# EAGLE library part MSP430F2132IPW (library Microcontroller)
IC MCU 16BIT 8KB FLASH 28TSSOP Manufacturer's datasheet <http://www.ti.com/lit/ds/symlink/msp430f2132.pdf>
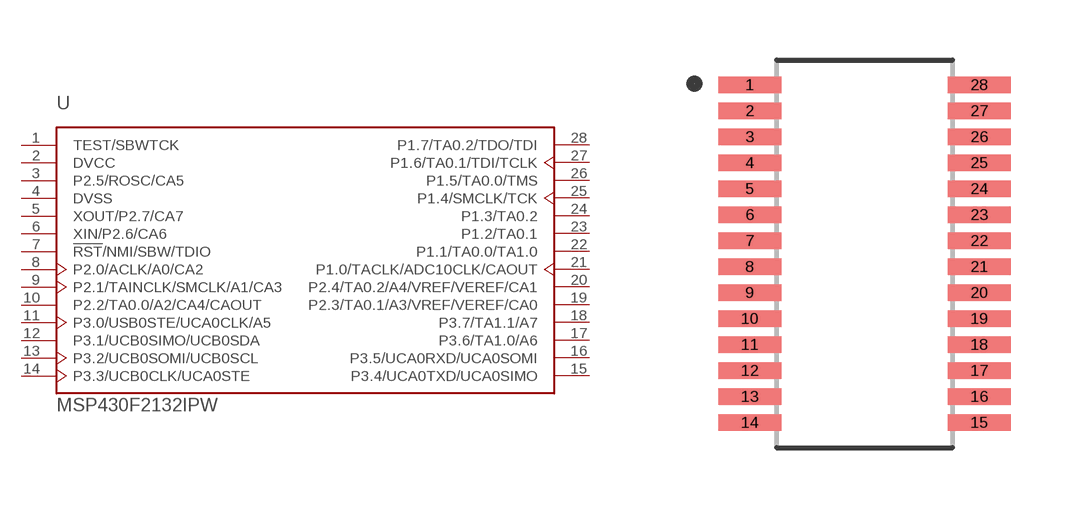
[diagram p13: symbol with the pads of TSSOP-28; footprint TSSOP-28]

Designator prefix U

## MSP430F2132IPW (CREATED_BY: PCBLayout.com; DIGIKEY_PART_NUMBER: 296-33426-5-ND; MANUFACTURER: Texas Instruments; MPN: MSP430F2132IPW; PACKAGE: TSSOP-28)  [TSSOP-28]
1  TEST/SBWTCK  in
2  DVCC
3  P2.5/ROSC/CA5
4  DVSS
5  XOUT/P2.7/CA7
6  XIN/P2.6/CA6
7  !RST!/NMI/SBW/TDIO  in
8  P2.0/ACLK/A0/CA2
9  P2.1/TAINCLK/SMCLK/A1/CA3
10  P2.2/TA0.0/A2/CA4/CAOUT
11  P3.0/USB0STE/UCA0CLK/A5
12  P3.1/UCB0SIMO/UCB0SDA
13  P3.2/UCB0SOMI/UCB0SCL
14  P3.3/UCB0CLK/UCA0STE
15  P3.4/UCA0TXD/UCA0SIMO
16  P3.5/UCA0RXD/UCA0SOMI
17  P3.6/TA1.0/A6
18  P3.7/TA1.1/A7
19  P2.3/TA0.1/A3/VREF/VEREF/CA0
20  P2.4/TA0.2/A4/VREF/VEREF/CA1
21  P1.0/TACLK/ADC10CLK/CAOUT
22  P1.1/TA0.0/TA1.0
23  P1.2/TA0.1
24  P1.3/TA0.2
25  P1.4/SMCLK/TCK
26  P1.5/TA0.0/TMS
27  P1.6/TA0.1/TDI/TCLK
28  P1.7/TA0.2/TDO/TDI

## Footprint TSSOP-28 (pad centres in mm)
smd 1.57 x 0.41: 1 -2.87,4.225; 2 -2.87,3.575; 3 -2.87,2.925; 4 -2.87,2.275; 5 -2.87,1.625; 6 -2.87,0.975; 7 -2.87,0.325; 8 -2.87,-0.325; 9 -2.87,-0.975; 10 -2.87,-1.625; 11 -2.87,-2.275; 12 -2.87,-2.925; 13 -2.87,-3.575; 14 -2.87,-4.225; 15 2.87,-4.225; 16 2.87,-3.575; 17 2.87,-2.925; 18 2.87,-2.275; 19 2.87,-1.625; 20 2.87,-0.975; 21 2.87,-0.325; 22 2.87,0.325; 23 2.87,0.975; 24 2.87,1.625; 25 2.87,2.275; 26 2.87,2.925; 27 2.87,3.575; 28 2.87,4.225